# Altium footprint library test1.PcbLib: 4 footprints
Each footprint in its own frame and in the unit in brackets; x right, y up, seen from the top. Pads: shape width x height; smd on the part's side, far side on the other; paste and mask are expansions set on the pad; w line width, h text height; cw(c..) or ccw(c..) is an arc to the next point about the centre after c.
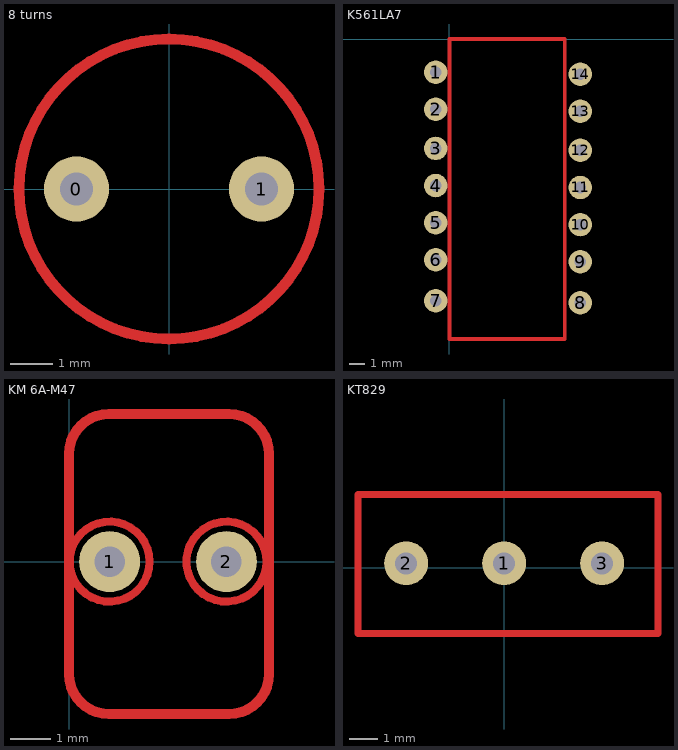
[diagram p0: the footprints below, top view; thin cyan lines are the x and y axes]

## 8 turns [mil]
pads (2):
  round 60 hole 30: 0(-85,0) 1(85,0)
Top Layer:
  circle w9.84: c0,0 r137.8
3D body "11.stp": height 137.8, standoff -78.74, extent -67.33,-65 70,72.56

## K561LA7 [mil]
pads (14):
  round 60 hole 30: 1(-35,-85) 2(-35,-180) 3(-35,-280) 4(-35,-375) 5(-35,-470) 6(-35,-565) 7(-35,-670) 8(335,-675) 9(335,-570) 10(335,-475) 11(335,-380) 12(335,-285) 13(335,-185) 14(335,-90)
Top Layer:
  lines w10: 0,-767.72 295.28,-767.72 295.28,0 0,0 0,-767.72
3D body "39.stp": height 196.85, standoff -196.85, extent -46.97,-763.86 350.67,3.86

## KM 6A-M47 [mil]
pads (2):
  round 60 hole 30: 1(40,0) 2(155,0)
Top Layer:
  circle w7.87: c40,0 r39.37
  circle w7.87: c155,0 r39.37
  lines w10: 0,-110.63 ccw(c39.37,-110.63) 39.37,-150 157.48,-150 ccw(c157.48,-110.63) 196.85,-110.63 196.85,105.91 ccw(c157.48,105.91) 157.48,145.28 39.37,145.28 ccw(c39.37,105.91) 0,105.91 0,-105 0,-110
3D body "54.stp": height 236.22, standoff -984.25, extent -42.64,-152.64 252.64,142.64

## KT829 [mil]
pads (3):
  round 60 hole 30: 1(-0.28,5.98) 2(-134.13,5.98) 3(133.58,5.98)
Top Layer:
  lines w10: -200,-90 210,-90 210,100 -200,100 -200,-90
3D body "51.stp": height 551.18, standoff -472.44, extent -199.72,-88.98 209.72,100